# Altium footprint library SMD-3225_4P.PcbLib: 1 footprints
Each footprint in its own frame and in the unit in brackets; x right, y up, seen from the top. Pads: shape width x height; smd on the part's side, far side on the other; paste and mask are expansions set on the pad; w line width, h text height; cw(c..) or ccw(c..) is an arc to the next point about the centre after c.
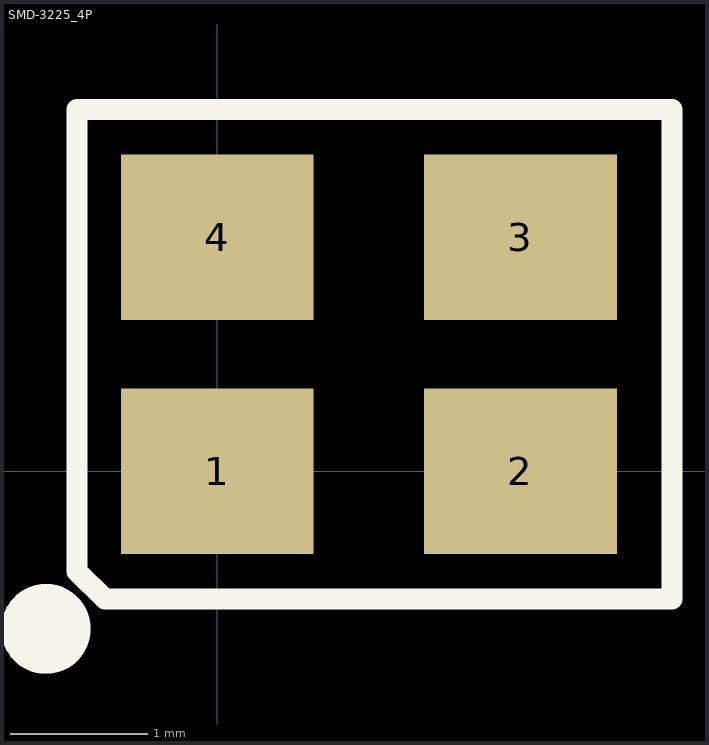
[diagram p0: the footprint, top view; thin cyan lines are the x and y axes]

## SMD-3225_4P [mm]
pads (4):
  rect 1.4x1.2 smd: 1(0,0) 2(2.2,0) 3(2.2,1.7) 4(0,1.7)
Top Overlay:
  circle w0.508: c-1.245,-1.143 r0.072
  lines w0.152: -1.016,-0.726 -0.814,-0.928 3.302,-0.928 3.302,2.628 -1.016,2.628 -1.016,-0.726
3D body: height 2.16, standoff -0.74, extent -0.508,2.628 -0.508,2.628
3D body: height 0.7, standoff 0, extent -0.762,-0.635 2.921,2.413